# Altium footprint library QFN-38_UHF.PcbLib: 1 footprints
Each footprint in its own frame and in the unit in brackets; x right, y up, seen from the top. Pads: shape width x height; smd on the part's side, far side on the other; paste and mask are expansions set on the pad; w line width, h text height; cw(c..) or ccw(c..) is an arc to the next point about the centre after c.
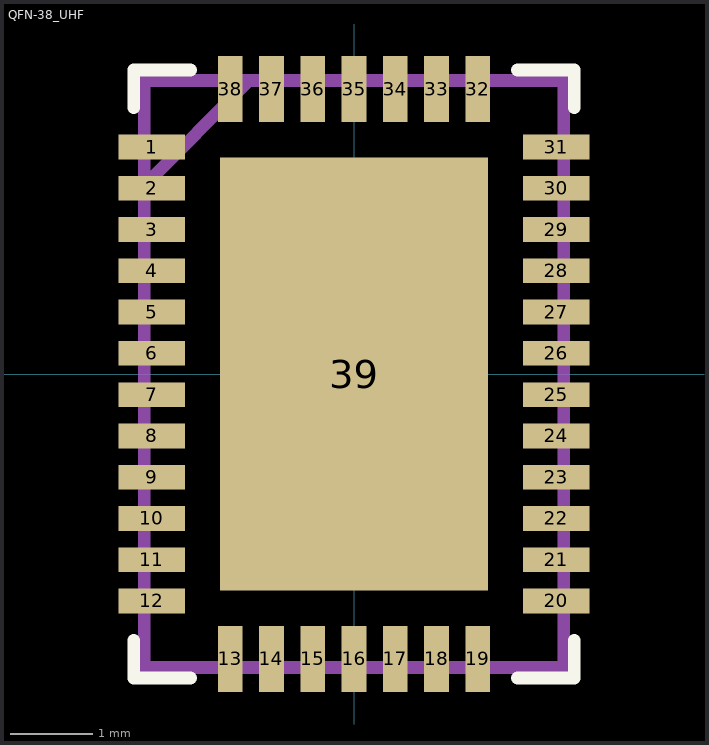
[diagram p0: the footprint, top view; thin cyan lines are the x and y axes]

## QFN-38_UHF [mm]
pads (39):
  rect 0.805x0.3 smd paste+0 mask+0.102: 1(-2.452,2.75) 2(-2.452,2.25) 3(-2.452,1.75) 4(-2.452,1.25) 5(-2.452,0.75) 6(-2.452,0.25) 7(-2.452,-0.25) 8(-2.452,-0.75) 9(-2.452,-1.25) 10(-2.452,-1.75) 11(-2.452,-2.25) 12(-2.452,-2.75) 20(2.452,-2.75) 21(2.452,-2.25) 22(2.452,-1.75) 23(2.452,-1.25) 24(2.452,-0.75) 25(2.452,-0.25) 26(2.452,0.25) 27(2.452,0.75) 28(2.452,1.25) 29(2.452,1.75) 30(2.452,2.25) 31(2.452,2.75)
  rect 0.3x0.805 smd paste+0 mask+0.102: 13(-1.5,-3.452) 14(-1,-3.452) 15(-0.5,-3.452) 16(0,-3.452) 17(0.5,-3.452) 18(1,-3.452) 19(1.5,-3.452) 32(1.5,3.452) 33(1,3.452) 34(0.5,3.452) 35(0,3.452) 36(-0.5,3.452) 37(-1,3.452) 38(-1.5,3.452)
  rect 3.25x5.25 smd paste-4 mask+0.102: 39(0,0)
Top Overlay:
  lines w0.152: -2.667,-3.226 -2.667,-3.683 -1.981,-3.683 ; -2.667,3.226 -2.667,3.683 -1.981,3.683 ; 1.981,-3.683 2.667,-3.683 2.667,-3.226 ; 1.981,3.683 2.667,3.683 2.667,3.226
Top Paste:
  region: 1.525,-2.525 0.1,-2.525 0.1,-1.412 1.525,-1.412
  region: 1.525,-1.212 0.1,-1.212 0.1,-0.1 1.525,-0.1
  region: 1.525,0.1 0.1,0.1 0.1,1.212 1.525,1.212
  region: 1.525,1.412 0.1,1.412 0.1,2.525 1.525,2.525
  region: -0.1,-2.525 -1.525,-2.525 -1.525,-1.412 -0.1,-1.412
  region: -0.1,-1.212 -1.525,-1.212 -1.525,-0.1 -0.1,-0.1
  region: -0.1,0.1 -1.525,0.1 -1.525,1.212 -0.1,1.212
  region: -0.1,1.412 -1.525,1.412 -1.525,2.525 -0.1,2.525
Assembly Top:
  lines w0.152: -2.54,-2.896 -2.54,-2.591 ; -2.54,-2.388 -2.54,-2.108 ; -2.54,-1.905 -2.54,-1.6 ; -2.54,-1.397 -2.54,-1.092 ; -2.54,-0.889 -2.54,-0.61 ; -2.54,-0.406 -2.54,-0.102 ; -2.54,0.102 -2.54,0.406 ; -2.54,0.61 -2.54,0.889 ; -2.54,1.092 -2.54,1.397 ; -2.54,1.6 -2.54,1.905 ; -2.54,2.108 -2.54,2.388 ; -2.54,2.286 -1.27,3.556 ; -2.54,2.591 -2.54,2.896 ; -1.651,-3.556 -1.346,-3.556 ; -1.651,3.556 -1.346,3.556 ; -1.143,-3.556 -0.838,-3.556 ; -1.143,3.556 -0.838,3.556 ; -0.66,-3.556 -0.356,-3.556 ; -0.66,3.556 -0.356,3.556 ; -0.152,-3.556 0.152,-3.556 ; -0.152,3.556 0.152,3.556 ; 0.356,-3.556 0.66,-3.556 ; 0.356,3.556 0.66,3.556 ; 0.838,-3.556 1.143,-3.556 ; 0.838,3.556 1.143,3.556 ; 1.346,-3.556 1.651,-3.556 ; 1.346,3.556 1.651,3.556 ; 2.54,-2.896 2.54,-2.591 ; 2.54,-2.388 2.54,-2.108 ; 2.54,-1.905 2.54,-1.6 ; 2.54,-1.397 2.54,-1.092 ; 2.54,-0.889 2.54,-0.61 ; 2.54,-0.406 2.54,-0.102 ; 2.54,0.102 2.54,0.406 ; 2.54,0.61 2.54,0.889 ; 2.54,1.092 2.54,1.397 ; 2.54,1.6 2.54,1.905 ; 2.54,2.108 2.54,2.388 ; 2.54,2.591 2.54,2.896 ; -2.54,-3.556 -2.54,3.556 2.54,3.556 2.54,-3.556 -2.54,-3.556
3D body "step_temp.STEP": height 0.8, standoff 0, extent -2.5,-3.5 2.5,3.5